# Altium schematic symbol library PWR578A.SCHLIB: 81 symbols (part 2 of 2)
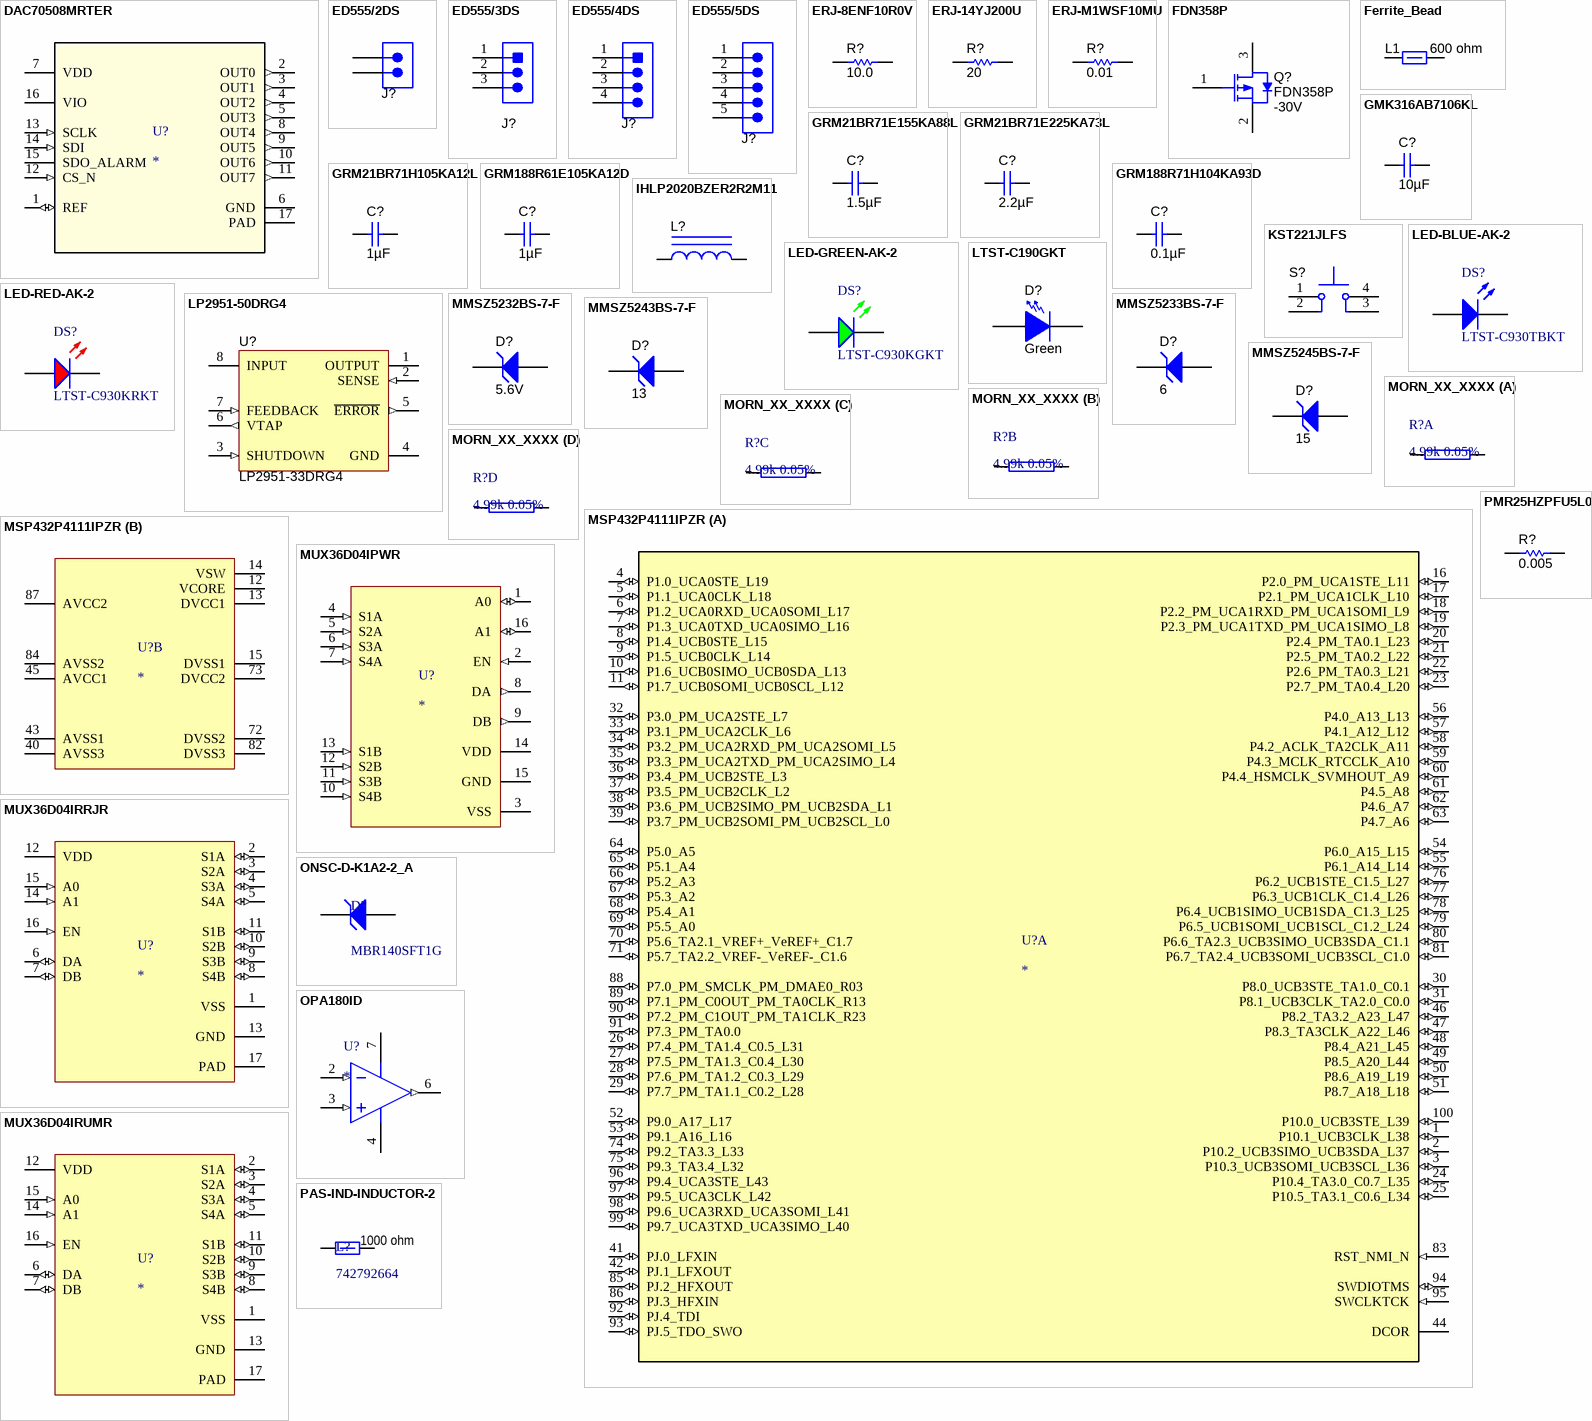
[diagram p3: symbols DAC70508MRTER to PMR25HZPFU5L00]

## GRM21BR71E155KA88L
designator C?  ValueDisplayed: 1.5µF  (hidden comment: GRM21BR71E155KA88L)
CAP, CERM, 1.5uF, 25V, +/-10%, X7R, 0805; Manufacturer: MuRata; Polarized: N; CompType: Capacitor; U/M: EA; Cap_F: 0.0000015; Tolerance_%: 10; Value1: Unknown; VDC_V: 25; TaMin_C: -55; TaMax_C: 125; Cap_Case: 0805; SymbolVersion: 2008-07-09; Value: 1.5uF; PartNumber: GRM21BR71E155KA88L; PackageReference: 0805; RoHS: Y; Value2: 25V; MountType: SMT; Technology: Ceramic; TempCo: X7R; Published: 2008-06-19; Publisher: Texas Instruments; LatestRevisionDate: 2013-07-18; ComponentLink1Description: Datasheet link; ComponentLink1URL: http://search.murata.co.jp/Ceramy/PnsearchViewAction.do?HnOFG=ON&HnNFG=ON&SEL_CNT=50&sLang=en&sKey=GRM21BR71E155KA88L&x=9&y=9&search=startwith; Supplier 1: Digi-Key; Supplier Part Number 1: 490-3330-1-ND; Supplier 2: Mouser; Supplier Part Number 2: 81-GRM21BR71E155KA8L
signal-integrity model Cap
simulation model Cap
footprint 0805_HV
footprint 0805
footprint 0805M
footprint 0805L
pins: 1, 2

## GRM21BR71E225KA73L
designator C?  ValueDisplayed: 2.2µF  (hidden comment: GRM21BR71E225KA73L)
CAP, CERM, 2.2uF, 25V, +/-10%, X7R, 0805; Manufacturer: MuRata; Polarized: N; CompType: Capacitor; U/M: EA; Cap_F: 0.0000022; Tolerance_%: 10; ESR_Ohm: 0.005; Value1: 0.005 ohm; VDC_V: 25; TaMin_C: -55; TaMax_C: 125; Cap_Case: 0805; SymbolVersion: 2008-07-09; Value: 2.2uF; PartNumber: GRM21BR71E225KA73L; PackageReference: 0805; RoHS: Y; Value2: 25V; MountType: SMT; Technology: Ceramic; TempCo: X7R; Published: 2008-06-19; Publisher: Texas Instruments; LatestRevisionDate: 2013-07-18; ComponentLink1Description: Datasheet link; ComponentLink1URL: http://search.murata.co.jp/Ceramy/PnsearchViewAction.do?HnOFG=ON&HnNFG=ON&SEL_CNT=50&sLang=en&sKey=GRM21BR71E225KA73L&x=9&y=9&search=startwith; Supplier 1: Digi-Key; Supplier Part Number 1: 490-3331-1-ND; Supplier 2: Mouser; Supplier Part Number 2: 81-GRM21BR71E225KA73; Supplier 3: Farnell; Supplier Part Number 3: 1735542
signal-integrity model Cap
simulation model Cap
footprint 0805_HV
footprint 0805
footprint 0805M
footprint 0805L
pins: 1, 2

## GRM21BR71H105KA12L
designator C?  ValueDisplayed: 1µF  (hidden comment: GRM21BR71H105KA12L)
CAP, CERM, 1uF, 50V, +/-10%, X7R, 0805; Manufacturer: MuRata; Polarized: N; CompType: Capacitor; U/M: EA; Cap_F: 0.000001; Tolerance_%: 10; Value1: Unknown; VDC_V: 50; TaMin_C: -55; TaMax_C: 125; Cap_Case: 0805; SymbolVersion: 2008-07-09; Value: 1uF; PartNumber: GRM21BR71H105KA12L; PackageReference: 0805; RoHS: Y; Value2: 50V; MountType: SMT; Technology: Ceramic; TempCo: X7R; Published: 2008-06-19; Publisher: Texas Instruments; LatestRevisionDate: 2013-07-18; ComponentLink1Description: Datasheet link; ComponentLink1URL: http://search.murata.co.jp/Ceramy/PnsearchViewAction.do?HnOFG=ON&HnNFG=ON&SEL_CNT=50&sLang=en&sKey=GRM21BR71H105KA12L&x=9&y=9&search=startwith; Supplier 1: Digi-Key; Supplier Part Number 1: 490-4736-1-ND; Supplier 2: Mouser; Supplier Part Number 2: 81-GRM21BR71H105KA2L; Supplier 3: Farnell; Supplier Part Number 3: 1735541
signal-integrity model Cap
simulation model Cap
footprint 0805_HV
footprint 0805
footprint 0805M
footprint 0805L
pins: 1, 2

## GRM188R61E105KA12D
designator C?  ValueDisplayed: 1µF  (hidden comment: GRM188R61E105KA12D)
CAP, CERM, 1uF, 25V, +/-10%, X5R, 0603; Manufacturer: MuRata; Polarized: N; CompType: Capacitor; U/M: EA; Cap_F: 0.000001; Tolerance_%: 10; Value1: Unknown; VDC_V: 25; TaMin_C: -55; TaMax_C: 85; Cap_Case: 0603; SymbolVersion: 2008-07-09; Value: 1uF; PartNumber: GRM188R61E105KA12D; PackageReference: 0603; RoHS: Y; Value2: 25V; MountType: SMT; Technology: Ceramic; TempCo: X5R; Published: 2008-06-19; Publisher: Texas Instruments; LatestRevisionDate: 2013-07-31; ComponentLink1Description: Datasheet link; ComponentLink1URL: http://search.murata.co.jp/Ceramy/PnsearchViewAction.do?HnOFG=ON&HnNFG=ON&SEL_CNT=50&sLang=en&sKey=GRM188R61E105KA12D&x=9&y=9&search=startwith; Supplier 1: Digi-Key; Supplier Part Number 1: 490-3897-1-ND; Supplier 2: Mouser; Supplier Part Number 2: 81-GRM188R61E105KA12; Supplier 3: Farnell; Supplier Part Number 3: 1828802
signal-integrity model Cap
simulation model Cap
footprint 0603
footprint 0603M
footprint 0603L
footprint 0603_HV
pins: 1, 2

## GRM188R71H104KA93D
designator C?  ValueDisplayed: 0.1µF  (hidden comment: GRM188R71H104KA93D)
CAP, CERM, 0.1uF, 50V, +/-10%, X7R, 0603; Manufacturer: MuRata; Polarized: N; CompType: Capacitor; U/M: EA; Cap_F: 0.0000001; Tolerance_%: 10; Value1: Unknown; VDC_V: 50; TaMin_C: -55; TaMax_C: 125; Cap_Case: 0603; SymbolVersion: 2008-07-09; Value: 0.1uF; PartNumber: GRM188R71H104KA93D; PackageReference: 0603; RoHS: Y; Value2: 50V; MountType: SMT; Technology: Ceramic; TempCo: X7R; Published: 2008-06-19; Publisher: Texas Instruments; LatestRevisionDate: 2013-07-18; ComponentLink1Description: Datasheet link; ComponentLink1URL: http://search.murata.co.jp/Ceramy/PnsearchViewAction.do?HnOFG=ON&HnNFG=ON&SEL_CNT=50&sLang=en&sKey=GRM188R71H104KA93D&x=9&y=9&search=startwith; Supplier 1: Digi-Key; Supplier Part Number 1: 490-1519-1-ND; Supplier 2: Mouser; Supplier Part Number 2: 81-GRM39X104K50D; Supplier 3: Farnell; Supplier Part Number 3: 8820023
signal-integrity model Cap
simulation model Cap
footprint 0603
footprint 0603M
footprint 0603L
footprint 0603_HV
pins: 1, 2

## IHLP2020BZER2R2M11
designator L?  (value not drawn)
Inductor, Shielded Drum Core, Powdered Iron, 2.2 µH, 5 A, 0.0377 ohm, SMD; Manufacturer: Vishay-Dale; Value: 2.2uH; Ind_H: 2.2E-6; ValueDisplayed: 2.2µH; Imax_A: 5; Irms: 5A @ 40C rise; Isat: 5.5A @ 20% inductance drop; DCR_ohm: 0.0377; Value2: 5A; SymbolVersion: 2008-07-23; CompType: Inductor; PartNumber: IHLP2020BZER2R2M11; Value1: 0.0377 ohm; Technology: Shielded Drum Core; MountType: SMT; Material: Powdered Iron; PackageReference: 5.49x2x5.18mm; Published: 2008-06-26; Publisher: Texas Instruments; LatestRevisionDate: 2014-09-21; ComponentLink1Description: Datasheet link; ComponentLink1URL: http://www.vishay.com/docs/34261/lp20bz11.pdf; RoHS: Y; Supplier 1: Digi-Key; Supplier Part Number 1: 541-1220-1-ND
signal-integrity model Inductor
simulation model Inductor
footprint IHLP-2020BZ
pins: 1, 2

## KST221JLFS
designator S?  (value not drawn)
Switch, Tactile, SPST-NO, SMT; Manufacturer: C&K Components; SymbolCreator: a0799628; VDC_V: 32; SwitchFunction: Off-Mom; PositionCount: 1; CurrentRating_mA: 50; SymbolVersion: 2013-06-10; PartNumber: KST221JLFS; MountType: SMT; ComponentLink1Description: Datasheet URL; ComponentLink1URL: http://www.ck-components.com/index.php?module=media&action=Display&cmpref=14404&lang=en&width=&height=&format=&alt=; RoHS: Y; Circuit: SPST-NO; Orientation: Top Actuated; CompType: Switch; PackageReference: Switch, 6.2X5X6.2 mm; Publisher: Texas Instruments; LatestRevisionDate: 2013-07-23; Supplier 1: Digi-Key; Supplier Part Number 1: 401-1848-1-ND; Supplier 2: Mouser; Supplier Part Number 2: 611-KST221JLFS
footprint SW_KST221JLFS
pins: 1, 2, 3, 4

## LED-BLUE-AK-2
designator DS?, comment LTST-C930TBKT
LED BLUE CLEAR CHIP SMD; Manufacturer: Lite-On; Product Length (mm): 3.2mm; Forward Voltage: 2.4V; Viewing Angle: 25deg; Luminous Intensity: 600mcd; Peak Wavelength: 430nm; Main Category: ChipLED; DELETED: Compliant; Shape Type: Circular; High Brightness: Yes; Forward Current: 30mA; Product Height (mm): 2.4mm; Number of  Elements: 1; Reverse Voltage: 5V; Type: Uni-Color; Chip Material: AlGaInP; Test Current (It): 20mA; Rad Hardened: No; Power Dissipation: 75W; Lens Color: Colorless; Dominant Wavelength: 475nm; Lens Style: Round,Diffused,Colorless,Clear,Circular; Wavelength: 468nm; Emitting Color: Blue; Pin Count: 2; Mounting Technology: SurfaceMount; Package Description: 2-Pin Surface Mount Device, Body 3.2 x 2.4 mm; Lens Dimensions: 1.8X1.8X1.4mm; Datasheet URL: http://optoelectronics.liteon.com/upload/download/DS22-2000-103/S_110_LTST-C930KGKT.pdf; Package Reference: C930KGKT; Packaging: TapeandReel; Operating Temperature Classification: Industrial; Operating Temp Range: -55Cto85C; Product Depth (mm): 2.4mm; Dominant Wave Length: 430nm; Lum Intensity: 600mcd; Package Type: ChipLed; Manufacturer URL: http://www.us.liteon.com/; Mounting: SurfaceMount; Datasheet Version: Rev. F, 09/2006; Supplier 1: Digi-Key; Manufacturer Part Number: LTST-C930TBKT; RoHS: Yes; Category: LEDs; Stock 1: 39063; Pricing 1: 1=0.38000, 10=0.24700, 100=0.16480, 500=0.11400 (USD); Mount: Surface Mount; Case/Package: 1209; Number of Pins: 2; Color: Blue; Case Code (Metric): 3224; Case Code (Imperial): 1209; Min Operating Temperature: -20°C; Max Operating Temperature: 80°C; Test Current: 20mA; Package Quantity: 1; Lens Transparency: Clear; Number of Elements: 1; Number of LEDs: 1; Illumination Color: Blue; Length: 3.2mm; Width: 2.4mm; Height: 2.4mm; Depth: 2.4mm; Radiation Hardening: No; Lead Free: Lead Free; ComponentLink1URL: https://datasheet.ciiva.com/15118/getdatasheetpartid-221108-15118116.pdf?src-supplier=Verical; ComponentLink1Description: https://datasheet.ciiva.com/15118/getdatasheetpartid-221108-15118116.pdf?src-supplier=Verical; ComponentLink2URL: https://datasheet.ciiva.com/2110/ltst-c930tbkt-2110660.pdf?src-supplier=Digi-Key; ComponentLink2Description: https://datasheet.ciiva.com/2110/ltst-c930tbkt-2110660.pdf?src-supplier=Digi-Key; ComponentLink3URL: https://datasheet.ciiva.com/11773/0900766b80dc058d-11773702.pdf?src-supplier=RSComponents; ComponentLink3Description: https://datasheet.ciiva.com/11773/0900766b80dc058d-11773702.pdf?src-supplier=RSComponents; ComponentLink4URL: https://datasheet.ciiva.com/16380/ltst-c930tbkt-16380424.pdf?src-supplier=Future+Electronics; ComponentLink4Description: https://datasheet.ciiva.com/16380/ltst-c930tbkt-16380424.pdf?src-supplier=Future+Electronics; ComponentLink5URL: https://datasheet.ciiva.com/12400/lite-on-ltst-c930tbkt-190121-12400878.pdf?src-supplier=Mouser; ComponentLink5Description: https://datasheet.ciiva.com/12400/lite-on-ltst-c930tbkt-190121-12400878.pdf?src-supplier=Mouser; ComponentLink6URL: https://datasheet.ciiva.com/2110/s-110-ltst-c930tbkt-2110662.pdf?src-supplier=Digi-Key; ComponentLink6Description: https://datasheet.ciiva.com/2110/s-110-ltst-c930tbkt-2110662.pdf?src-supplier=Digi-Key; ComponentLink7URL: https://datasheet.ciiva.com/2110/s-110-ltst-c930tbkt-2110661.pdf?src-supplier=Digi-Key; ComponentLink7Description: https://datasheet.ciiva.com/2110/s-110-ltst-c930tbkt-2110661.pdf?src-supplier=Digi-Key; Supplier Part Number 1: 160-1649-1-ND
footprint LTST-C930KGKT_V (Footprint not found)
pins: 1 A, 2 K

## LED-GREEN-AK-2
designator DS?, comment LTST-C930KGKT
LED Green, 75 mW, 30 mA, -55 to 85 degC, 2-Pin SMD, RoHS, Tape and Reel; Manufacturer: Lite-On; Product Length (mm): 3.2mm; Forward Voltage: 2.4V; Emitting Color: YellowGreen; Viewing Angle: 25deg; Luminous Intensity: 600mcd; Peak Wavelength: 574nm; Main Category: ChipLED; DELETED: Compliant; Shape Type: Circular; High Brightness: Yes; Forward Current: 30mA; Product Height (mm): 2.4mm; Number of  Elements: 1; Reverse Voltage: 5V; Type: Uni-Color; Chip Material: AlGaInP; Dominant Wave Length: 571nm; Test Current (It): 20mA; Rad Hardened: No; Power Dissipation: 75W; Pin Count: 2; Mounting Technology: SurfaceMount; Package Description: 2-Pin Surface Mount Device, Body 3.2 x 2.4 mm; Lens Dimensions: 1.8X1.8X1.4mm; Datasheet URL: http://optoelectronics.liteon.com/upload/download/DS22-2000-103/S_110_LTST-C930KGKT.pdf; Package Reference: C930KGKT; Packaging: TapeandReel; Operating Temperature Classification: Industrial; Operating Temp Range: -55Cto85C; Product Depth (mm): 2.4mm; Lum Intensity: 600mcd; Package Type: ChipLed; Manufacturer URL: http://www.us.liteon.com/; Mounting: SurfaceMount; Datasheet Version: Rev. F, 09/2006
footprint LTST-C930KGKT_V (SMD, 2-Leads, Body 3.2x2.4mm)
pins: 1 A, 2 K

## LED-RED-AK-2
designator DS?, comment LTST-C930KRKT
In a Pack of 50, 2.4 V Red LED 3125 (1210) SMD, Lite-On LTST-C930KRKT; Product Length (mm): 3.2mm; Forward Voltage: 1.6V; Viewing Angle: 25deg; Luminous Intensity: 600mcd; Peak Wavelength: 660nm; Main Category: ChipLED; DELETED: Compliant; Shape Type: Circular; High Brightness: Yes; Forward Current: 30mA; Product Height (mm): 2.4mm; Number of  Elements: 1; Reverse Voltage: 5V; Type: Uni-Color; Chip Material: AlGaInP; Dominant Wave Length: 571nm; Test Current (It): 20mA; Rad Hardened: No; Power Dissipation: 75W; Lens Color: Colorless; Dominant Wavelength: 631nm; Lens Style: Diffused,Colorless,Circular,Round,Clear; Lens Transparency: Clear; Wavelength: 639nm; Power Rating: 75mW; Emitting Color: Red; Pin Count: 2; Mounting Technology: SurfaceMount; Package Description: 2-Pin Surface Mount Device, Body 3.2 x 2.4 mm; Lens Dimensions: 1.8X1.8X1.4mm; Datasheet URL: http://optoelectronics.liteon.com/upload/download/DS22-2000-103/S_110_LTST-C930KGKT.pdf; Package Reference: C930KRKT; Packaging: TapeandReel; Operating Temperature Classification: Industrial; Operating Temp Range: -55Cto85C; Product Depth (mm): 2.4mm; Lum Intensity: 600mcd; Package Type: ChipLed; Manufacturer URL: http://www.us.liteon.com/; Mounting: SurfaceMount; Datasheet Version: Rev. F, 09/2006; Manufacturer: Lite-On; Supplier 1: Digi-Key; Manufacturer Part Number: LTST-C930KRKT; RoHS: Yes; Category: LEDs; Stock 1: 85288; Pricing 1: 1=0.36000, 10=0.19500, 100=0.09070, 500=0.08370 (USD); Mount: Surface Mount; Case/Package: 1209; Number of Pins: 2; Color: Red; Case Code (Imperial): 1209; Case Code (Metric): 3224; Min Operating Temperature: -55°C; Max Operating Temperature: 85°C; Test Current: 20mA; Number of Elements: 1; Package Quantity: 1; Number of LEDs: 1; Illumination Color: Red; Max Power Dissipation: 75mW; Length: 3.2mm; Width: 2.4mm; Height: 2.4mm; Depth: 2.4mm; Radiation Hardening: No; Lead Free: Lead Free; ComponentLink1URL: https://datasheet.ciiva.com/11774/0900766b80dc058b-11774374.pdf?src-supplier=RSComponents; ComponentLink1Description: https://datasheet.ciiva.com/11774/0900766b80dc058b-11774374.pdf?src-supplier=RSComponents; ComponentLink2URL: https://datasheet.ciiva.com/16290/lite-on20ltst-c930krkt-16290854.pdf?src-supplier=Future+Electronics; ComponentLink2Description: https://datasheet.ciiva.com/16290/lite-on20ltst-c930krkt-16290854.pdf?src-supplier=Future+Electronics; ComponentLink3URL: https://datasheet.ciiva.com/12403/100-ltst-c930krkt-63309-12403881.pdf?src-supplier=Mouser; ComponentLink3Description: https://datasheet.ciiva.com/12403/100-ltst-c930krkt-63309-12403881.pdf?src-supplier=Mouser; ComponentLink4URL: https://datasheet.ciiva.com/15117/getdatasheetpartid-119503-15117599.pdf?src-supplier=Verical; ComponentLink4Description: https://datasheet.ciiva.com/15117/getdatasheetpartid-119503-15117599.pdf?src-supplier=Verical; ComponentLink5URL: https://datasheet.ciiva.com/2115/ltst-c930krkt-2115869.pdf?src-supplier=Digi-Key; ComponentLink5Description: https://datasheet.ciiva.com/2115/ltst-c930krkt-2115869.pdf?src-supplier=Digi-Key; Supplier Part Number 1: 160-1463-1-ND
footprint LTST-C930 (Footprint not found)
pins: 1 A, 2 K

## LP2951-50DRG4
designator U?, comment LP2951-33DRG4
Fixed Regulator with 1 to 30 V Input and 1.2 to 30 V Output, -40 to 125 degC, 8-Pin SOIC (D), Green (RoHS & no Sb/Br); Manufacturer: Texas Instruments; Alternate Manufacturer: None; Alternate PartNumber: Equivalent; Iout(Max)(A): 0.1; Iq(Typ)(mA): 0.075; Vin(Max)(V): 30; Vin(Min)(V): 1; Vout(Min)(V): 1.2; DatasheetVersion: SLVS582H; PackageVersion: revM, Jun-2011; PackageReference: D0008A; PackageDescription: 8-Pin Plastic Small Outline Integrated Circuit, 4.9 x 3.9 mm, Pitch 1.27 mm Pitch; Supplier 1: Digi-Key; Supplier Part Number 1: LP2951-33DRG4-ND; Supplier 2: Newark; Supplier Part Number 2: 18M2447; Supplier 3: Mouser; Supplier Part Number 3: 595-LP2951-50DRG4; Eco-Plan: Green (RoHS & no Sb/Br); Vout(Max)(V): 30; MountType: SMT; PartNumber: LP2951-33DRG4; Code_JEDEC: MS-012AA; ComponentLink1Description: Datasheet; ComponentLink1URL: http://www.ti.com/general/docs/lit/getliterature.tsp?genericPartNumber=LP2951-50&fileType=pdf; ComponentLink2Description: URL Link1; ComponentLink2URL: Samples URL:http://www.ti.com/product/lp2951-50#samples
footprint D0008A_N (SOIC, 8-Leads, Body 4.9x3.9mm, Pitch 1.27mm, IPC Medium Density)
footprint D0008A_L (SOIC, 8-Leads, Body 4.9x3.9mm, Pitch 1.27mm, IPC High Density)
footprint D0008A_M (SOIC, 8-Leads, Body 4.9x3.9mm, Pitch 1.27mm, IPC Low Density)
pins: 1 OUTPUT (power), 2 SENSE (in), 3 SHUTDOWN (in), 4 GND (power), 5 ~{ERROR} (out), 6 VTAP (out), 7 FEEDBACK (in), 8 INPUT (power)

## LTST-C190GKT
designator D?  value Green  (hidden comment: LTST-C190GKT)
LED, Green, SMD; Manufacturer: Lite-On; Vf_V: 2.1; Value2: 2.1V; Io_A: 0.02; Power_TotalModule: 0.1; Value1: 0.1W; U/M: EA; CompType: LED; PartNumber: LTST-C190GKT; SymbolVersion: 2008-12-08; MountType: SMT; RoHS: Y; PackageReference: 1.6x0.8x0.8mm; Type: ?; Color: green; Published: 2008-07-11; Publisher: Texas Instruments; ComponentLink1URL: https://sps06.itg.ti.com/sites/KMS/crossdivteams/altium/docs/ComponentDatasheets/LTST-C190GKT.pdf; ComponentLink1Description: Datasheet link; LatestRevisionDate: 2013-07-31; LatestRevisionNote: Updated supplier queries; Supplier 1: Digi-Key; Supplier Part Number 1: 160-1183-1-ND; Supplier 2: Mouser; Supplier Part Number 2: 859-LTST-C190GKT
signal-integrity model Diode
footprint LED_LTST-C190
pins: 1 A, 2 K

## MMSZ5232BS-7-F
designator D?  value 5.6V  (hidden comment: MMSZ5232BS-7-F)
Diode, Zener, 5.6V, 200mW, SOD-323; Manufacturer: Diodes Inc.; U/M: EA; Power_W: 0.2; Vz_V: 5.6; Value1: 0.2W; RJA_CperW: 350; CompType: Zener; SymbolVersion: 2010-08-25; PartNumber: MMSZ5232BS-7-F; PackageReference: SOD-323; Vr_V: N/A; MountType: SMT; RoHS: Y; ComponentLink1Description: Datasheet link; ComponentLink1URL: http://www.diodes.com/datasheets/ds31038.pdf; Published: 2008-10-08; Publisher: Texas Instruments; LatestRevisionDate: 2013-07-05; LatestRevisionNote: Updated Supplier Data; Supplier 1: Digi-Key; Supplier Part Number 1: MMSZ5232BS-FDICT-ND; Supplier 2: Mouser; Supplier Part Number 2: 621-MMSZ5232BS-F
signal-integrity model Diode
footprint sod-323
pins: 1 K, 2 A

## MMSZ5233BS-7-F
designator D?, comment value 6  (hidden comment: MMSZ5243BS-7-F)
Diode, Zener, 6V, 200mW, SOD-323; Manufacturer: Diodes Inc.; U/M: EA; Power_W: 0.2; Value1: 0.2W; RJA_CperW: 350; CompType: Zener; SymbolVersion: 2010-08-25; PartNumber: MMSZ5243BS-7-F; PackageReference: SOD-323; Vr_V: N/A; Vz_V: 6; MountType: SMT; RoHS: Y; ComponentLink1Description: Datasheet link; ComponentLink1URL: http://www.diodes.com/datasheets/ds31038.pdf; Published: 2008-10-08; Publisher: Texas Instruments; LatestRevisionDate: 2013-07-05; LatestRevisionNote: Updated Supplier Data
signal-integrity model Diode
footprint sod-323
pins: 1 K, 2 A

## MMSZ5243BS-7-F
designator D?  value 13  (hidden comment: MMSZ5243BS-7-F)
Diode, Zener, 13V, 200mW, SOD-323; Manufacturer: Diodes Inc.; U/M: EA; Power_W: 0.2; Value1: 0.2W; RJA_CperW: 350; CompType: Zener; SymbolVersion: 2010-08-25; PartNumber: MMSZ5243BS-7-F; PackageReference: SOD-323; Vr_V: N/A; Vz_V: 13; MountType: SMT; RoHS: Y; ComponentLink1Description: Datasheet link; ComponentLink1URL: http://www.diodes.com/datasheets/ds31038.pdf; Published: 2008-10-08; Publisher: Texas Instruments; LatestRevisionDate: 2013-07-05; LatestRevisionNote: Updated Supplier Data
signal-integrity model Diode
footprint sod-323
pins: 1 K, 2 A

## MMSZ5245BS-7-F
designator D?, comment value 15  (hidden comment: MMSZ5243BS-7-F)
Diode, Zener, 15V, 200mW, SOD-323; Manufacturer: Diodes Inc.; U/M: EA; Power_W: 0.2; Value1: 0.2W; RJA_CperW: 350; CompType: Zener; SymbolVersion: 2010-08-25; PartNumber: MMSZ5243BS-7-F; PackageReference: SOD-323; Vr_V: N/A; Vz_V: 15; MountType: SMT; RoHS: Y; ComponentLink1Description: Datasheet link; ComponentLink1URL: http://www.diodes.com/datasheets/ds31038.pdf; Published: 2008-10-08; Publisher: Texas Instruments; LatestRevisionDate: 2013-07-05; LatestRevisionNote: Updated Supplier Data
signal-integrity model Diode
footprint sod-323
pins: 1 K, 2 A

## MORN_XX_XXXX
designator R?, comment 4.99k 0.05%
Matched Resistor Network; DBDesc: 4.99k 0.05%
footprint ST TSSOP-8 (TSSOP, 8-Leads, Body 3.00x4.40mm, Pitch 0.65mm, IPC Medium Density)
part A pins: 1, 8
part B pins: 2, 7
part C pins: 3, 6
part D pins: 4, 5

## MSP432P4111IPZR
designator U?
No Description Available; PartNumber: MSP432P4111IPZR; Manufacturer: Texas Instruments; RefDes: RefDes; Type: DEV; Value: Value; Copyright: Copyright (C) 2018 Accelerated Designs. All rights reserved
footprint PZ0100A_N
part A pins: 1 P10.1_UCB3CLK_L38 (io), 2 P10.2_UCB3SIMO_UCB3SDA_L37 (io), 3 P10.3_UCB3SOMI_UCB3SCL_L36 (io), 4 P1.0_UCA0STE_L19 (io), 5 P1.1_UCA0CLK_L18 (io), 6 P1.2_UCA0RXD_UCA0SOMI_L17 (io), 7 P1.3_UCA0TXD_UCA0SIMO_L16 (io), 8 P1.4_UCB0STE_L15 (io), 9 P1.5_UCB0CLK_L14 (io), 10 P1.6_UCB0SIMO_UCB0SDA_L13 (io), 11 P1.7_UCB0SOMI_UCB0SCL_L12 (io), 16 P2.0_PM_UCA1STE_L11 (io), 17 P2.1_PM_UCA1CLK_L10 (io), 18 P2.2_PM_UCA1RXD_PM_UCA1SOMI_L9 (io), 19 P2.3_PM_UCA1TXD_PM_UCA1SIMO_L8 (io), 20 P2.4_PM_TA0.1_L23 (io), 21 P2.5_PM_TA0.2_L22 (io), 22 P2.6_PM_TA0.3_L21 (io), 23 P2.7_PM_TA0.4_L20 (io), 24 P10.4_TA3.0_C0.7_L35 (io), 25 P10.5_TA3.1_C0.6_L34 (io), 26 P7.4_PM_TA1.4_C0.5_L31 (io), 27 P7.5_PM_TA1.3_C0.4_L30 (io), 28 P7.6_PM_TA1.2_C0.3_L29 (io), 29 P7.7_PM_TA1.1_C0.2_L28 (io), 30 P8.0_UCB3STE_TA1.0_C0.1 (io), 31 P8.1_UCB3CLK_TA2.0_C0.0 (io), 32 P3.0_PM_UCA2STE_L7 (io), 33 P3.1_PM_UCA2CLK_L6 (io), 34 P3.2_PM_UCA2RXD_PM_UCA2SOMI_L5 (io), 35 P3.3_PM_UCA2TXD_PM_UCA2SIMO_L4 (io), 36 P3.4_PM_UCB2STE_L3 (io), 37 P3.5_PM_UCB2CLK_L2 (io), 38 P3.6_PM_UCB2SIMO_PM_UCB2SDA_L1 (io), 39 P3.7_PM_UCB2SOMI_PM_UCB2SCL_L0 (io), 41 PJ.0_LFXIN (io), 42 PJ.1_LFXOUT (io), 44 DCOR, 46 P8.2_TA3.2_A23_L47 (io), 47 P8.3_TA3CLK_A22_L46 (io), 48 P8.4_A21_L45 (io), 49 P8.5_A20_L44 (io), 50 P8.6_A19_L19 (io), 51 P8.7_A18_L18 (io), 52 P9.0_A17_L17 (io), 53 P9.1_A16_L16 (io), 54 P6.0_A15_L15 (io), 55 P6.1_A14_L14 (io), 56 P4.0_A13_L13 (io), 57 P4.1_A12_L12 (io), 58 P4.2_ACLK_TA2CLK_A11 (io), 59 P4.3_MCLK_RTCCLK_A10 (io), 60 P4.4_HSMCLK_SVMHOUT_A9 (io), 61 P4.5_A8 (io), 62 P4.6_A7 (io), 63 P4.7_A6 (io), 64 P5.0_A5 (io), 65 P5.1_A4 (io), 66 P5.2_A3 (io), 67 P5.3_A2 (io), 68 P5.4_A1 (io), 69 P5.5_A0 (io), 70 P5.6_TA2.1_VREF+_VeREF+_C1.7 (io), 71 P5.7_TA2.2_VREF-_VeREF-_C1.6 (io), 74 P9.2_TA3.3_L33 (io), 75 P9.3_TA3.4_L32 (io), 76 P6.2_UCB1STE_C1.5_L27 (io), 77 P6.3_UCB1CLK_C1.4_L26 (io), 78 P6.4_UCB1SIMO_UCB1SDA_C1.3_L25 (io), 79 P6.5_UCB1SOMI_UCB1SCL_C1.2_L24 (io), 80 P6.6_TA2.3_UCB3SIMO_UCB3SDA_C1.1 (io), 81 P6.7_TA2.4_UCB3SOMI_UCB3SCL_C1.0 (io), 83 RST_NMI_N (in), 85 PJ.2_HFXOUT (io), 86 PJ.3_HFXIN (io), 88 P7.0_PM_SMCLK_PM_DMAE0_R03 (io), 89 P7.1_PM_C0OUT_PM_TA0CLK_R13 (io), 90 P7.2_PM_C1OUT_PM_TA1CLK_R23 (io), 91 P7.3_PM_TA0.0 (io), 92 PJ.4_TDI (io), 93 PJ.5_TDO_SWO (io), 94 SWDIOTMS (io), 95 SWCLKTCK (in), 96 P9.4_UCA3STE_L43 (io), 97 P9.5_UCA3CLK_L42 (io), 98 P9.6_UCA3RXD_UCA3SOMI_L41 (io), 99 P9.7_UCA3TXD_UCA3SIMO_L40 (io), 100 P10.0_UCB3STE_L39 (io)
part B pins: 12 VCORE (power), 13 DVCC1 (power), 14 VSW (power), 15 DVSS1 (power), 40 AVSS3 (power), 43 AVSS1 (power), 45 AVCC1 (power), 72 DVSS2 (power), 73 DVCC2 (power), 82 DVSS3 (power), 84 AVSS2 (power), 87 AVCC2 (power)

## MUX36D04IPWR
designator U?
No Description Available; PartNumber: MUX36D04IPWR; Manufacturer: Texas Instruments; RefDes: RefDes; Type: DEV; Value: Value; Copyright: Copyright (C) 2018 Accelerated Designs. All rights reserved
footprint PW0016A_N
pins: 1 A0 (io), 2 EN (in), 3 VSS (power), 4 S1A (in), 5 S2A (in), 6 S3A (in), 7 S4A (in), 8 DA (out), 9 DB (out), 10 S4B (in), 11 S3B (in), 12 S2B (in), 13 S1B (in), 14 VDD (power), 15 GND (power), 16 A1 (io)

## MUX36D04IRRJR
designator U?
No Description Available; PartNumber: MUX36D04IRRJR; Manufacturer: Texas Instruments; RefDes: RefDes; Type: DEV; Value: Value; Copyright: Copyright (C) 2018 Accelerated Designs. All rights reserved
footprint RRJ0016A
pins: 1 VSS (power), 2 S1A (io), 3 S2A (io), 4 S3A (io), 5 S4A (io), 6 DA (io), 7 DB (io), 8 S4B (io), 9 S3B (io), 10 S2B (io), 11 S1B (io), 12 VDD (power), 13 GND (power), 14 A1 (in), 15 A0 (in), 16 EN (in), 17 PAD

## MUX36D04IRUMR
designator U?
No Description Available; Manufacturer: Texas Instruments; PartNumber: MUX36D04IRUMR; RefDes: RefDes; Type: DEV; Value: Value; Copyright: Copyright (C) 2018 Accelerated Designs. All rights reserved
footprint RUM0016B
pins: 1 VSS (power), 2 S1A (io), 3 S2A (io), 4 S3A (io), 5 S4A (io), 6 DA (io), 7 DB (io), 8 S4B (io), 9 S3B (io), 10 S2B (io), 11 S1B (io), 12 VDD (power), 13 GND (power), 14 A1 (in), 15 A0 (in), 16 EN (in), 17 PAD

## ONSC-D-K1A2-2_A
designator D?, comment MBR140SFT1G
Schottky Power Rectifier, 2-Pin SOD-123, Pb-Free, Tape and Reel; Manufacturer: On Semiconductor; IFSM Max (A): 30; Configuration: Single; ComponentLink3URL: http://www.onsemi.cn/pub_link/Collateral/MBR120VLSFT1-D.PDF; PackageDescription: 2-Pin SOD, Body 1.65 x 2.7 mm; DatasheetVersion: Rev. 5; ComponentLink3Description: Package Specification; RoHS: TRUE; ComponentLink1Description: Manufacturer URL; ComponentLink1URL: http://www.onsemi.com/; Packing: Tape and Reel; ComponentLink2URL: http://www.onsemi.cn/pub_link/Collateral/MBR140SFT1-D.PDF; PackageVersion: Rev. A; PartNumber: MBR140SFT1G; Mounting Technology: Surface Mount; ComponentLink2Description: Datasheet; PackageReference: SOD-123FL-2-498-01
footprint ONSC-SOD-123FL-2-498-01_V (SOD, 2-Leads, Body 2.7x1.65mm)
pins: 1 K, 2 A

## OPA180ID
designator U?
TEXAS INSTRUMENTS         OPA180IDGKT            Operational Amplifier, Single, 2 MHz, 1 Amplifier, 0.8 V/s,  2.25V to  18V, 4.5V to 36V, VSSOP; PartNumber: OPA180IDR; CompType: IC; PIN_COUNT: 8; Gain Bandwidth Product: 2MHz; Number of Channels: 1; Input Bias Current: 250pA; Input Offset Voltage (Vos): 15uV; Operating Supply Current: 450uA; Output Current per Channel: 18mA; Slew Rate: 0.8V/µs; Common Mode Rejection Ratio: 104dB; Min Supply Voltage: 4V; Min Dual Supply Voltage: 2V; Voltage Gain: 120dB; Alternate_PartNumber: OPA180ID; PackageReference: D0008A; MountType: SMT; RoHS: Y; Manufacturer: Texas Instruments; RefDes: RefDes; Type: DEV; Value: Value; Copyright: Copyright (C) 2018 Accelerated Designs. All rights reserved; Supplier 1: Digi-Key; Manufacturer Part Number: OPA180IDGKT; Category: Amplifiers - Op Amps, Buffer, Instrumentation; Stock 1: 284; Pricing 1: 1=2.06000, 10=1.85200, 25=1.74760, 100=1.39800 (USD); Mount: Surface Mount; Case/Package: VSSOP; Number of Pins: 8; Min Operating Temperature: -40°C; Max Operating Temperature: 105°C; Number of Circuits: 1; Packaging: Cut Tape; Number of Amplifiers: 1; Bandwidth: 2MHz; Max Supply Voltage: 36V; Max Dual Supply Voltage: 18V; Lead Free: Lead Free; REACH SVHC: No SVHC; ComponentLink1URL: http://www.ti.com/lit/gpn/opa180?src-supplier=Mouser; ComponentLink1Description: http://www.ti.com/lit/gpn/opa180?src-supplier=Mouser; ComponentLink2URL: http://www.ti.com/general/docs/lit/getliterature.tsp?genericPartNumber=OPA180&&fileType=pdf&src-supplier=Farnell; ComponentLink2Description: http://www.ti.com/general/docs/lit/getliterature.tsp?genericPartNumber=OPA180&&fileType=pdf&src-supplier=Farnell; ComponentLink3URL: http://www.ti.com/lit/ds/symlink/opa180.pdf?src-supplier=Digi-Key; ComponentLink3Description: http://www.ti.com/lit/ds/symlink/opa180.pdf?src-supplier=Digi-Key; ComponentLink4URL: http://www.farnell.com/datasheets/1965676.pdf?src-supplier=Element14; ComponentLink4Description: http://www.farnell.com/datasheets/1965676.pdf?src-supplier=Element14; ComponentLink5URL: http://www.ti.com/general/docs/lit/getliterature.tsp?genericPartNumber=OPA4180&&fileType=pdf&src-supplier=Avnet; ComponentLink5Description: http://www.ti.com/general/docs/lit/getliterature.tsp?genericPartNumber=OPA4180&&fileType=pdf&src-supplier=Avnet; Supplier Part Number 1: 296-37995-1-ND
footprint D0008A_N
pins: 2 IN A- (in), 3 IN A+ (in), 4 V- (power), 6 OUT (out), 7 V+ (power)

## PAS-IND-INDUCTOR-2
designator L?, comment 742792664
SMD EMI Suppression Ferrite Bead WE-CBF, Z = 1000 Ohm; PackageReference: SMD-0603; Impedance: 1000 Ohm; ComponentLink2URL: http://www.we-online.de/katalog/media/pdf/742792664.pdf; PackageVersion: 2009; PackageDescription: Chip Inductor, 2-Leads, Body 1.6 x 0.8 mm; DatasheetVersion: ver 2, Jul-2006; ComponentLink1Description: Manufacturer Link; ComponentLink1URL: http://www.we-online.com; ComponentLink2Description: Datasheet
footprint 0603
pins: 1, 2
text: 1000 ohm

## PMR25HZPFU5L00
designator R?  value 0.005  (hidden comment: PMR25HZPFU5L00)
RES, 0.005 ohm, 1%, 1W, 1210; Manufacturer: Rohm; CompType: Resistor; Value_Code: R005; Tolerance_%: 1; TempCo: 100 ppm/C; EIA_Code: E96; U/M: EA; SymbolVersion: 2009-05-29; PartNumber: PMR25HZPFU5L00; PackageReference: 1210; RoHS: Y; Res_ohm: 0.005; Value1: 1%; Power_W: 1; Value2: 1W; MountType: SMT; Technology: Thick Film; Published: 2008-06-26; Publisher: Texas Instruments; LatestRevisionDate: 2013-07-17; ComponentLink1Description: Datasheet link; ComponentLink1URL: http://media.digikey.com/pdf/Data%20Sheets/Rohm%20PDFs/PMR25-Series.pdf; Supplier 1: Digi-Key; Supplier Part Number 1: RHM.005APCT-ND
signal-integrity model Resistor
simulation model Resistor
footprint 1210M
footprint 1210L
footprint 1210
pins: 1, 2

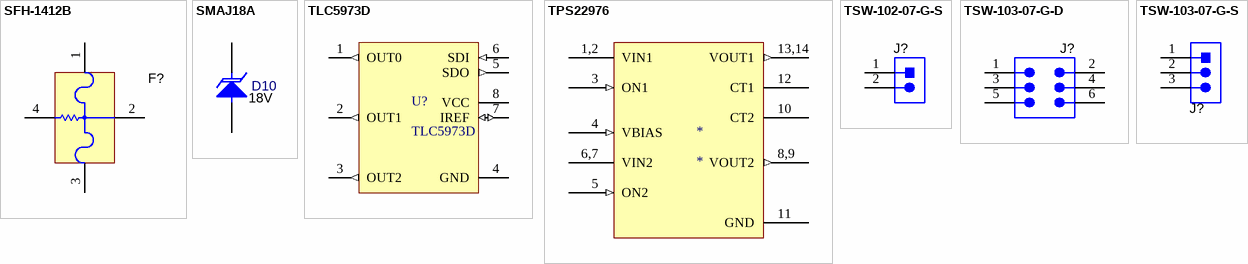
[diagram p2: symbols SFH-1412B to TSW-103-07-G-S]

## SFH-1412B
designator F?  (value not drawn)
Fuse, 12A, 36V, SMD; Manufacturer: Dexerials Corporation; SymbolCreator: x0208325; U/M: EA; VDC_V: 36; Irating_A: 12; Rtyp_Ohm: 0.0015; Soldering_Reflow_MaxTemp_C: 260; Soldering_Reflow_MaxTime_s: 210; SymbolVersion: 2013-11-13; PartNumber: SFH-1412B; PackageReference: 5.4x1.35x3.2mm; CompType: Fuse; Published: 2009-03-05; RoHS: Y; Publisher: Texas Instruments; LatestRevisionDate: 2013-11-17; ComponentLink1Description: Datasheet link; ComponentLink1URL: https://sps06.itg.ti.com/sites/KMS/crossdivteams/altium/docs/ComponentDatasheets/Dexerials%20SFH%20Datasheet.pdf; MountType: SMT
footprint FUSE_SFH
pins: 1 Fuse, 2, 3 Fuse, 4 Heater

## SMAJ18A
designator D10  value 18V  (hidden comment: SMAJ18A)
Diode, TVS, Uni, 18 V, 29.2 Vc, SMA; Manufacturer: Littelfuse; U/M: EA; Value1: 3.3W; Vr_V: 18; Power_W: 3.3; RJA_CperW: 120; AEC Category: Q101; AEC Qualified: N; SizeAreaWB_mm2: 37.3428; SizeArea_mm2: 16.3228; SizeX_mm: 5.59; SizeY_mm: 2.92; SizeZ_mm: 2.87; CompType: TVS; SymbolVersion: 2012-01-13; PartNumber: SMAJ18A; PackageReference: SMA; MountType: SMT; RoHS: Y; Published: 2008-10-08; Publisher: Texas Instruments; LatestRevisionDate: 2016-12-21; ComponentLink1Description: Datasheet link; ComponentLink1URL: http://www.littelfuse.com/~/media/electronics/datasheets/tvs_diodes/littelfuse_tvs_diode_smaj_datasheet.pdf.pdf; Supplier 1: Digi-Key; Supplier Part Number 1: SMAJ18ALFCT-ND; Supplier 2: Mouser; Supplier Part Number 2: 576-SMAJ18A; Supplier 3: Farnell; Supplier Part Number 3: 1787557; Vz_V: N/A; LatestRevisionNote: Updated Supplier Data
footprint SMA
pins: 1 K, 2 A

## TLC5973D
designator U?
IC LED DVR 12BIT PWM 3CH 8SOIC; Vendor: Texas Instruments; Built_By: EMA_UL_Team; SourceLibrary: TI_2016-12-05; Frequency: 12MHz; Number of Outputs: 3; Max Supply Voltage: 6V; Output Voltage: 21V; Output Current per Channel: 50mA; Min Supply Voltage: 3V; Operating Supply Voltage: 5V; Nominal Supply Current: 10mA; Switching Frequency: 3MHz; High Level Output Current: -2mA; Manufacturer_Part_Number: TLC5973D; Copyright: Copyright (C) 2018 Accelerated Designs. All rights reserved; RefDes: RefDes; Type: DEV; Supplier 1: Digi-Key; Manufacturer: Texas Instruments; Manufacturer Part Number: TLC5973D; RoHS: Yes; Category: LED Drivers; Stock 1: 1055; Pricing 1: 1=1.12000, 10=0.99700, 25=0.94640, 100=0.72670, 250=0.64220, 500=0.60840, 1000=0.47320, 2500=0.44954, 5000=0.43264 (USD); Mount: Surface Mount; Case/Package: SOIC; Number of Pins: 8; Min Operating Temperature: -40°C; Max Operating Temperature: 125°C; Packaging: Rail/Tube; Package Quantity: 75; Output Current: 50mA; Max Supply Current: 10mA; Min Input Voltage: 3V; Max Input Voltage: 6V; Low Level Output Current: 50mA; Length: 5mm; Width: 4mm; Height: 1.5mm; Radiation Hardening: No; Lead Free: Lead Free; REACH SVHC: No SVHC; ComponentLink1URL: https://datasheet.ciiva.com/15082/tlc5973-15082248.pdf?src-supplier=Digi-Key; ComponentLink1Description: https://datasheet.ciiva.com/15082/tlc5973-15082248.pdf?src-supplier=Digi-Key; ComponentLink2URL: https://datasheet.ciiva.com/15135/getdatasheetpartid-724348-15135897.pdf?src-supplier=Verical; ComponentLink2Description: https://datasheet.ciiva.com/15135/getdatasheetpartid-724348-15135897.pdf?src-supplier=Verical; Supplier Part Number 1: 296-39814-5-ND
footprint D8_TEX
pins: 1 OUT0 (out), 2 OUT1 (out), 3 OUT2 (out), 4 GND (power), 5 SDO (out), 6 SDI (in), 7 IREF (io), 8 VCC (power)

## TPS22976
designator *
footprint TI PWSON-14 DPU (DPU, 14-Leads, Body 3.10x2.10mm, Pitch 0.40mm, Thermal Pad 2.50x0.90mm, IPC Medium Density)
pins: 1,2 VIN1 (power), 3 ON1 (in), 4 VBIAS (in), 5 ON2 (in), 6,7 VIN2 (power), 8,9 VOUT2 (out), 10 CT2, 11 GND (power), 12 CT1, 13,14 VOUT1 (out)

## TSW-102-07-G-S
designator J?  (value not drawn)
Header, 100mil, 2x1, Gold, TH; Manufacturer: Samtec; SymbolCreator: a0412235; U/M: EA; SymbolVersion: 2013-10-31; PartNumber: TSW-102-07-G-S; ClassName: Header; PackageReference: 2x1 Header; CompType: Header; RoHS: Y; MountType: TH; ComponentLink1Description: Datasheet Link; ComponentLink1URL: http://samtec.com/ftppub/pdf/TSW_TH.PDF; Publisher: Texas Instruments; LatestRevisionDate: 2014-09-28; Supplier 1: Digi-Key; Supplier Part Number 1: SAM1029-02-ND
footprint TSW-102-07-G-S
footprint TSW-102-07-X-S
pins: 1, 2
1 alternate drawing of the same symbol

## TSW-103-07-G-D
designator J?  (value not drawn)
Header, TH, 100mil, 3x2, Gold plated, 230 mil above insulator; Manufacturer: Samtec; U/M: EA; PartNumber: TSW-103-07-G-D; ClassName: Header; CompType: Header; RoHS: Y; PackageReference: 3x2 Header; MountType: TH; ComponentLink1Description: Datasheet Link; ComponentLink1URL: http://samtec.com/ftppub/pdf/TSW_TH.PDF; Publisher: Texas Instruments; LatestRevisionDate: 2013-07-11; Supplier 1: Digi-Key; Supplier Part Number 1: SAM1028-03-ND
footprint TSW-103-07-G-D
pins: 1, 2, 3, 4, 5, 6

## TSW-103-07-G-S
designator J?  (value not drawn)
Header, 100mil, 3x1, Gold, TH; Manufacturer: Samtec; SymbolCreator: a0799628; U/M: EA; SymbolVersion: 2013-03-28; PartNumber: TSW-103-07-G-S; ClassName: Header; PackageReference: 3x1 Header; CompType: Header; RoHS: Y; MountType: TH; ComponentLink1Description: Datasheet Link; ComponentLink1URL: http://samtec.com/ftppub/pdf/TSW_TH.PDF; Publisher: Texas Instruments; LatestRevisionDate: 2014-09-28; Supplier 1: Digi-Key; Supplier Part Number 1: SAM1029-03-ND
footprint TSW-103-07-G-S
footprint TSW-103-07-X-S
pins: 1, 2, 3
2 alternate drawings of the same symbol